# Altium schematic symbol library CD4040.SchLib: 1 symbol
Pins are listed as number, name and electrical type; pins without a type are passive.

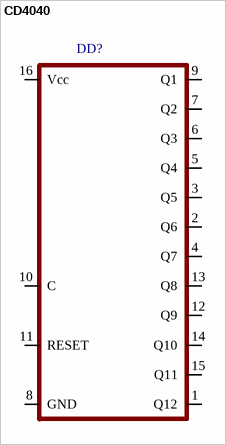
[diagram p0: symbol CD4040]

## CD4040
designator DD?
footprint SO16-150
pins: 1 Q12, 2 Q6, 3 Q5, 4 Q7, 5 Q4, 6 Q3, 7 Q2, 8 GND, 9 Q1, 10 C, 11 RESET, 12 Q9, 13 Q8, 14 Q10, 15 Q11, 16 Vcc